# Altium schematic symbol library 74LVC161PW.SchLib: 1 symbol
Pins are listed as number, name and electrical type; pins without a type are passive.

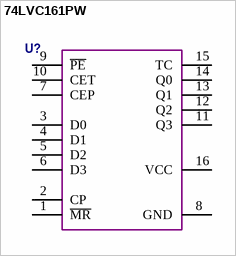
[diagram p0: symbol 74LVC161PW]

## 74LVC161PW
designator U?  (value not drawn)
pins: 1 ~{MR}, 2 CP, 3 D0, 4 D1, 5 D2, 6 D3, 7 CEP, 8 GND, 9 ~{PE}, 10 CET, 11 Q3, 12 Q2, 13 Q1, 14 Q0, 15 TC, 16 VCC